# Altium integrated library PMIC-LDO-XC6206P332MR-G_SOT23_.IntLib: 1 symbol
Pins are listed as number, name and electrical type; pins without a type are passive.

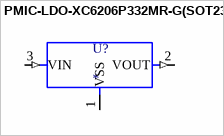
[diagram p0: symbol PMIC-LDO-XC6206P332MR-G(SOT23)]

## PMIC-LDO-XC6206P332MR-G(SOT23)
designator U?
Linear Voltage Regulator IC Positive Fixed 1 Output 200mA SOT-23; MF: Torex; MP: XC6206P332MR-G; Check_prices: https://www.snapeda.com/parts/XC6206P332MR-G/Torex/view-part/?ref=eda; Purchase-URL: https://pricing.snapeda.com/search/part/XC6206P332MR-G/?ref=eda; Value: *; Availability: In Stock; Package: SOT-23-3 Torex; SnapEDA_Link: https://www.snapeda.com/parts/XC6206P332MR-G/Torex/view-part/?ref=snap; Price: None
footprint SOT-23
pins: 1 VSS (power), 2 VOUT (out), 3 VIN (in)